# EAGLE library part PCM5102A-AMZN-BOARD (library PCM5102A-I2S-DAC)
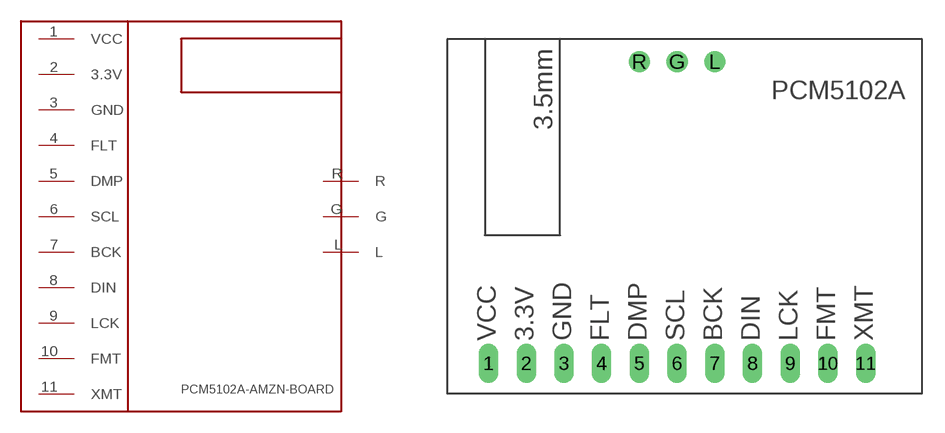
[diagram p0: symbol with the pads of PCM5102A-AMZN-BOARD; footprint PCM5102A-AMZN-BOARD]

Designator prefix -

## PCM5102A-AMZN-BOARD  [PCM5102A-AMZN-BOARD]
1  VCC
2  3.3V
3  GND
4  FLT
5  DMP
6  SCL
7  BCK
8  DIN
9  LCK
10  FMT
11  XMT
G  G  out
L  L  out
R  R  out

## Footprint PCM5102A-AMZN-BOARD (pad centres in mm)
FEMALE HEADER
drill 0.813 long: 1 0,0; 2 2.54,0; 3 5.08,0; 4 7.62,0; 5 10.16,0; 6 12.7,0; 7 15.24,0; 8 17.78,0; 9 20.32,0; 10 22.86,0; 11 25.4,0
drill 0.813 pad 1.422: G 12.7,20.32; L 15.24,20.32; R 10.16,20.32